# EAGLE library part SMC (library WallE_Motor_Board)
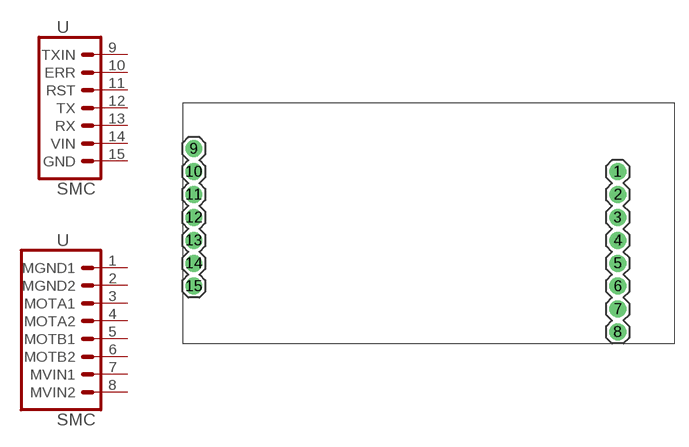
[diagram p1: symbol with the pads of SMC; footprint SMC]

Designator prefix -

## SMC  [SMC]
1  MGND1  pas
2  MGND2  pas
3  MOTA1  pas
4  MOTA2  pas
5  MOTB1  pas
6  MOTB2  pas
7  MVIN1  pas
8  MVIN2  pas
9  TXIN  pas
10  ERR  pas
11  RST  pas
12  TX  pas
13  RX  pas
14  VIN  pas
15  GND  pas

## Footprint SMC (pad centres in mm)
drill 1.016 pad 1.88: 1 0,0; 2 0,-2.54; 3 0,-5.08; 4 0,-7.62; 5 0,-10.16; 6 0,-12.7; 7 0,-15.24; 8 0,-17.78; 9 -46.99,2.54; 10 -46.99,0; 11 -46.99,-2.54; 12 -46.99,-5.08; 13 -46.99,-7.62; 14 -46.99,-10.16; 15 -46.99,-12.7